# EAGLE library part 418127160908 (library Wurth_Switch_WS-DITV)
WS-DITV Small Compact THT Flat Actuator with Top Tape 2.54 mm Mechanical Properties Operation Force:600 g Electrical Life:2000 Cycles Actuator Type:Flat Type Switch Position:Off Properties IR:25 mA VR:24 V (DC) IR:100 mA VR:50 V (DC) Contact Resistance Initial:50 mΩ Contact Resistance After Life Test:100 mΩ RISO:100 MΩ Withstanding Voltage:500 V (AC) Actuator Type:Flat Type Switch Position:Off Washable:Yes Material Properties Cover Material:PA9T Cover Flammability Rating:UL94 V-0 Cover Color:Black Base Material:PA9T Base Flammability Rating:UL94 V-0 Base Color:Black Actuator Material:PA66 Actuator Flammability Rating:UL94 V-0 Actuator Color:White Contact Material:Copper Alloy Contact Plating:Gold Terminal Material:Copper Alloy Terminal Plating:Gold General Information Operating Temperature:-40 up to +85 °C Washable:Yes Packaging Properties Packaging:Tube <https://www.we-online.com/catalog/media/o77514v209%20Family_WS-DITV_THT_FLAT_ACTUATOR_4181271609xx_4C.jpg> Details see: https://www.we-online.com/catalog/en/DITV_2_54_SMALL_COMPACT_THT_FLAT_ACTUATOR/ Updated by Yingchun, Shan 2020-01-23 2020 (C) Würth Elektronik
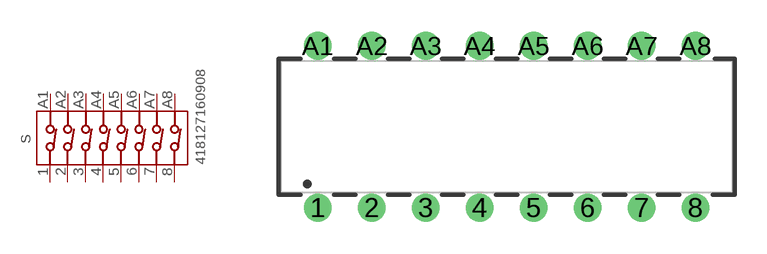
[diagram p28: symbol with the pads of 418127160908; footprint 418127160908]

Designator prefix S

## 418127160908 (DATASHEET-URL: https://www.we-online.com/catalog/datasheet/418127160908.pdf; PART-NUMBER: 418127160908; PINS: 8; QTY: 24; VALUE: 418127160908)  [418127160908]
1  1  pas
2  2  pas
3  3  pas
4  4  pas
5  5  pas
6  6  pas
7  7  pas
8  8  pas
A1  A1  pas
A2  A2  pas
A3  A3  pas
A4  A4  pas
A5  A5  pas
A6  A6  pas
A7  A7  pas
A8  A8  pas

## Footprint 418127160908 (pad centres in mm)
WS-DITV Small Compact THT Flat Actuator with Top Tape 2.54 mm,8poles
drill 0.8: 1 -8.89,-3.81; 2 -6.35,-3.81; 3 -3.81,-3.81; 4 -1.27,-3.81; 5 1.27,-3.81; 6 3.81,-3.81; 7 6.35,-3.81; 8 8.89,-3.81; A1 -8.89,3.81; A2 -6.35,3.81; A3 -3.81,3.81; A4 -1.27,3.81; A5 1.27,3.81; A6 3.81,3.81; A7 6.35,3.81; A8 8.89,3.81